# Altium footprint library PCB_Relay_932.PcbLib: 1 footprints
Each footprint in its own frame and in the unit in brackets; x right, y up, seen from the top. Pads: shape width x height; smd on the part's side, far side on the other; paste and mask are expansions set on the pad; w line width, h text height; cw(c..) or ccw(c..) is an arc to the next point about the centre after c.
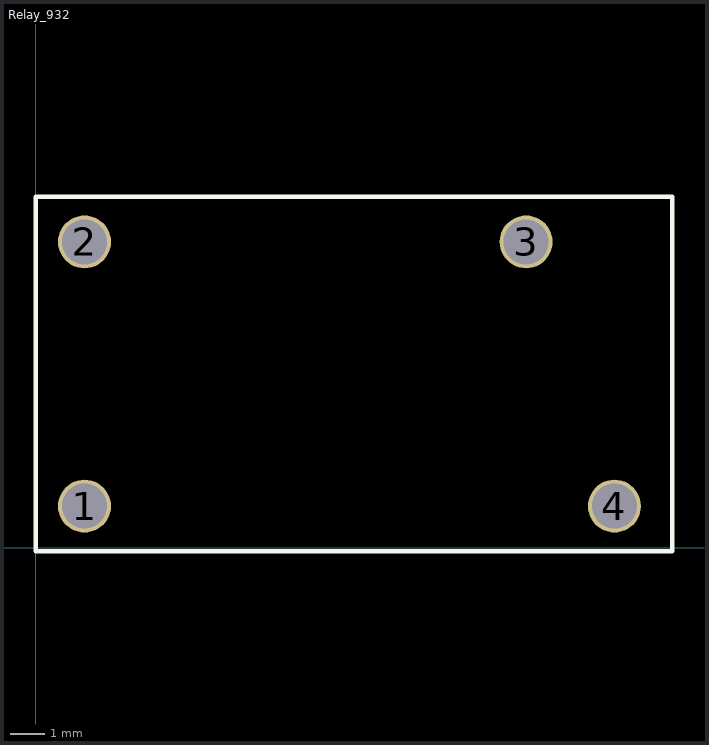
[diagram p0: the footprint, top view; thin cyan lines are the x and y axes]

## Relay_932 [mm]
pads (4):
  round 1.524 hole 1.3: 1(1.4,1.2) 2(1.4,8.8) 3(14.1,8.8) 4(16.64,1.2)
Top Overlay:
  lines w0.127: 0,-0.1 0,10.1 18.3,10.1 18.3,-0.1 0,-0.1